# EAGLE library part AY-5-1013A (library oldchips)
UART
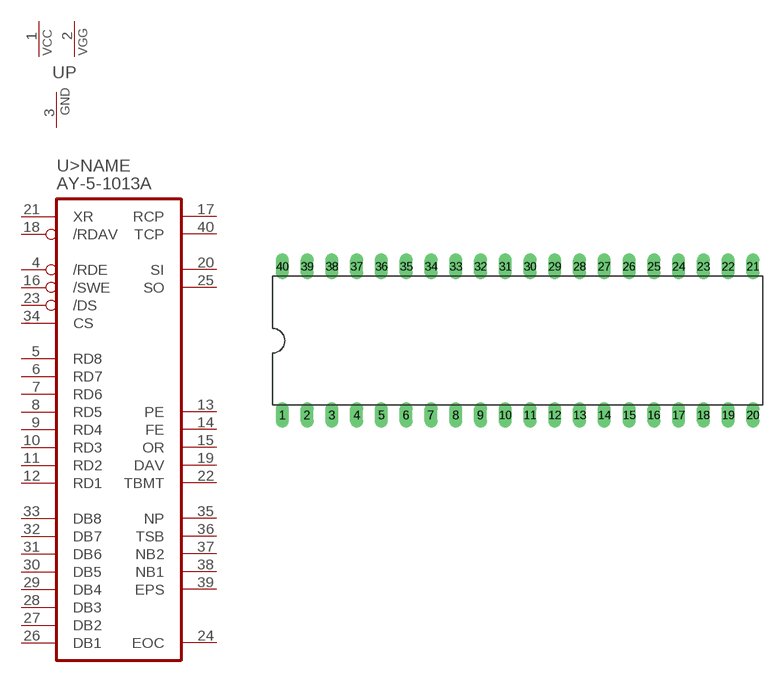
[diagram p14: symbol with the pads of DIL40; footprint DIL40]

Designator prefix U; gates >NAME=AY-3-1015 P=VCCVGGGND

## AY-5-1013A  [DIL40]
1  P:VCC  pwr
2  P:VGG  pwr
3  P:GND  pwr
4  >NAME:/RDE  in
5  >NAME:RD8  hiz
6  >NAME:RD7  hiz
7  >NAME:RD6  hiz
8  >NAME:RD5  hiz
9  >NAME:RD4  hiz
10  >NAME:RD3  hiz
11  >NAME:RD2  hiz
12  >NAME:RD1  hiz
13  >NAME:PE  hiz
14  >NAME:FE  hiz
15  >NAME:OR  hiz
16  >NAME:/SWE  in
17  >NAME:RCP  in
18  >NAME:/RDAV  in
19  >NAME:DAV  hiz
20  >NAME:SI  in
21  >NAME:XR  in
22  >NAME:TBMT  hiz
23  >NAME:/DS  in
24  >NAME:EOC  out
25  >NAME:SO  out
26  >NAME:DB1  in
27  >NAME:DB2  in
28  >NAME:DB3  in
29  >NAME:DB4  in
30  >NAME:DB5  in
31  >NAME:DB6  in
32  >NAME:DB7  in
33  >NAME:DB8  in
34  >NAME:CS  in
35  >NAME:NP  in
36  >NAME:TSB  in
37  >NAME:NB2  in
38  >NAME:NB1  in
39  >NAME:EPS  in
40  >NAME:TCP  in

## Footprint DIL40 (pad centres in mm)
Dual In Line
drill 0.813 long: 1 -24.13,-7.62; 2 -21.59,-7.62; 3 -19.05,-7.62; 4 -16.51,-7.62; 5 -13.97,-7.62; 6 -11.43,-7.62; 7 -8.89,-7.62; 8 -6.35,-7.62; 9 -3.81,-7.62; 10 -1.27,-7.62; 11 1.27,-7.62; 12 3.81,-7.62; 13 6.35,-7.62; 14 8.89,-7.62; 15 11.43,-7.62; 16 13.97,-7.62; 17 16.51,-7.62; 18 19.05,-7.62; 19 21.59,-7.62; 20 24.13,-7.62; 21 24.13,7.62; 22 21.59,7.62; 23 19.05,7.62; 24 16.51,7.62; 25 13.97,7.62; 26 11.43,7.62; 27 8.89,7.62; 28 6.35,7.62; 29 3.81,7.62; 30 1.27,7.62; 31 -1.27,7.62; 32 -3.81,7.62; 33 -6.35,7.62; 34 -8.89,7.62; 35 -11.43,7.62; 36 -13.97,7.62; 37 -16.51,7.62; 38 -19.05,7.62; 39 -21.59,7.62; 40 -24.13,7.62